# EAGLE library part TINY20 (library atmel)
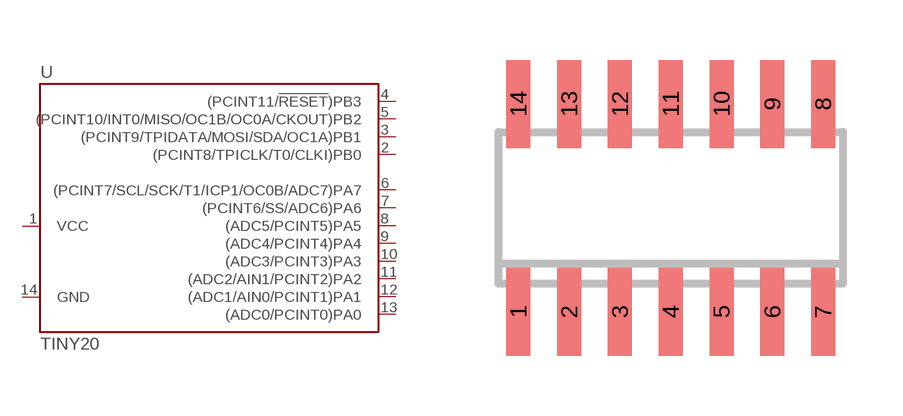
[diagram p92: symbol with the pads of SOIC14; footprint SOIC14]

Designator prefix -

## TINY20  [SOIC14]
1  VCC  pwr
2  (PCINT8/TPICLK/T0/CLKI)PB0
3  (PCINT9/TPIDATA/MOSI/SDA/OC1A)PB1
4  (PCINT11/!RESET!)PB3
5  (PCINT10/INT0/MISO/OC1B/OC0A/CKOUT)PB2
6  (PCINT7/SCL/SCK/T1/ICP1/OC0B/ADC7)PA7
7  (PCINT6/SS/ADC6)PA6
8  (ADC5/PCINT5)PA5
9  (ADC4/PCINT4)PA4
10  (ADC3/PCINT3)PA3
11  (ADC2/AIN1/PCINT2)PA2
12  (ADC1/AIN0/PCINT1)PA1
13  (ADC0/PCINT0)PA0
14  GND  pwr

## Footprint SOIC14 (pad centres in mm)
smd 0.6 x 2.2: 1 -3.81,-2.6; 2 -2.54,-2.6; 3 -1.27,-2.6; 4 0,-2.6; 5 1.27,-2.6; 6 2.54,-2.6; 7 3.81,-2.6; 8 3.81,2.6; 9 2.54,2.6; 10 1.27,2.6; 11 0,2.6; 12 -1.27,2.6; 13 -2.54,2.6; 14 -3.81,2.6